# EAGLE library part MIC2548 (library OpenMotics)
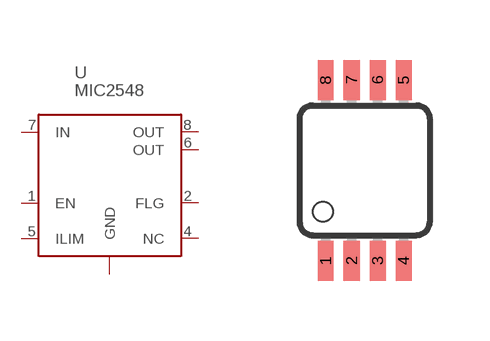
[diagram p32: symbol with the pads of MSOP08; footprint MSOP08]

Designator prefix U

## MIC2548  [MSOP08]
1  EN  pas
2  FLG  pas
3  GND  pas
4  NC  pas
5  ILIM  pas
6  OUT  pas
7  IN  pas
8  OUT  pas

## Footprint MSOP08 (pad centres in mm)
smd 0.4 x 1: 1 -0.976,-2.263; 2 -0.326,-2.263; 3 0.324,-2.263; 4 0.974,-2.263; 5 0.974,2.262; 6 0.324,2.262; 7 -0.326,2.262; 8 -0.976,2.262